# Altium footprint library POWERDI123.PcbLib: 1 footprints
Each footprint in its own frame and in the unit in brackets; x right, y up, seen from the top. Pads: shape width x height; smd on the part's side, far side on the other; paste and mask are expansions set on the pad; w line width, h text height; cw(c..) or ccw(c..) is an arc to the next point about the centre after c.
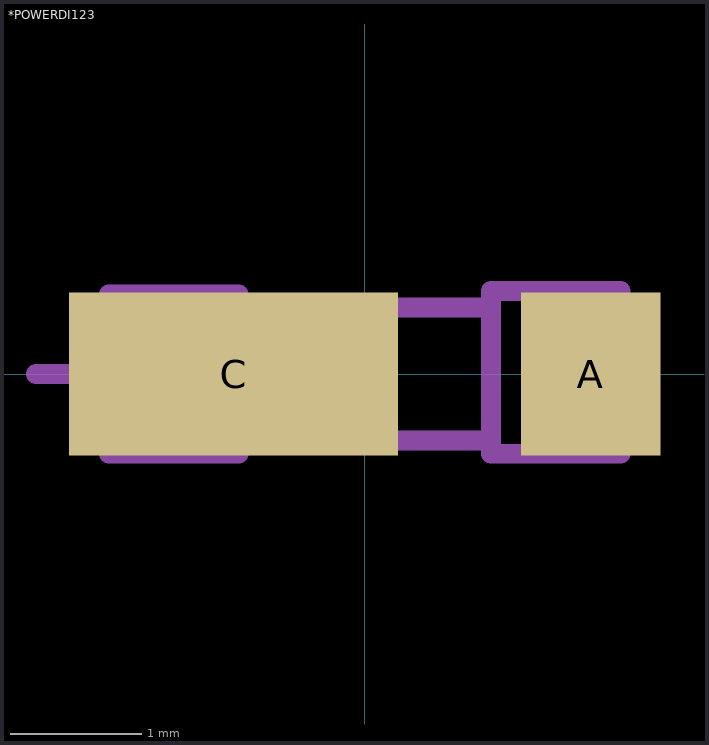
[diagram p0: the footprint, top view; thin cyan lines are the x and y axes]

## *POWERDI123 [mil]
pads (2):
  rect 42x49 smd: A(68,0)
  rect 99x49 smd: C(-39.5,0)
Mechanical 4:
  lines w6: 77,20 77,-24 ; -77,-24 -38,-24 ; -77,-24 -77,24 ; -77,-24 -38,-24 ; -77,-24 -77,24 ; -77,24 -38,24 ; -77,24 -38,24 ; -38,-24 -38,-20 ; -38,-24 -38,-20 ; -38,-20 38,-20 ; -38,-20 -38,-10 ; -38,-20 38,-20 ; -38,-20 -38,-10 ; -38,-10 -38,10 ; -38,-10 -28,-20 -38,-10 ; -38,-10 -38,10 ; -38,-10 -38,10 ; -38,-10 -38,10 ; -38,10 -28,20 -38,10 ; -38,10 -38,20 ; -38,10 -38,20 ; -38,20 38,20 ; -38,20 -38,24 ; -38,20 38,20 ; -38,20 -38,24 ; 38,-24 77,-24 ; 38,-24 38,-20 ; 38,-24 77,-24 ; 38,-24 38,-20 ; 38,-20 38,20 ; 38,-20 38,20 ; 38,20 38,25 77,25 77,-24 ; -99,0 -69,0 -99,0 ; -84,-15 -84,15 -84,-15